# Altium footprint library Cap electrolitic radial 8x12-3.5.PcbLib: 1 footprints
Each footprint in its own frame and in the unit in brackets; x right, y up, seen from the top. Pads: shape width x height; smd on the part's side, far side on the other; paste and mask are expansions set on the pad; w line width, h text height; cw(c..) or ccw(c..) is an arc to the next point about the centre after c.
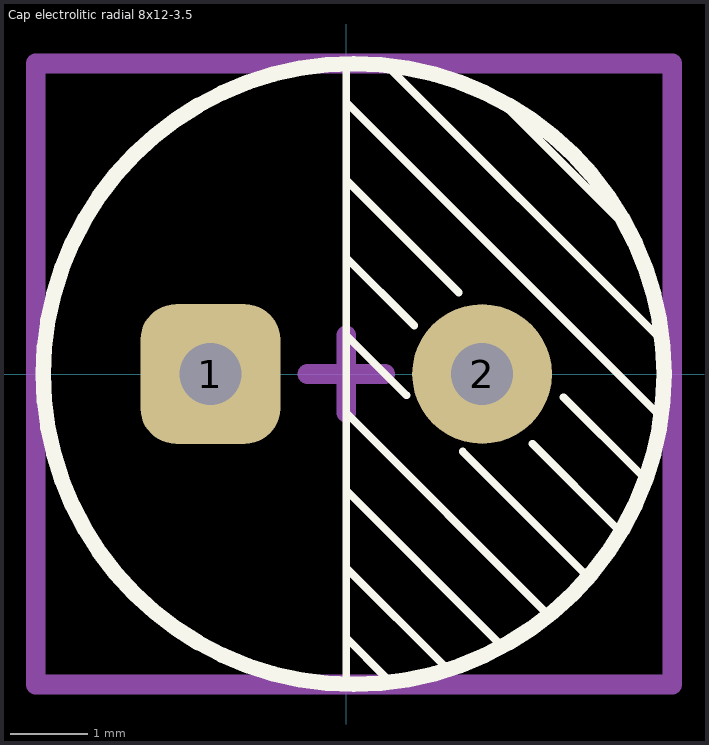
[diagram p0: the footprint, top view; thin cyan lines are the x and y axes]

## Cap electrolitic radial 8x12-3.5 [mm] "Cap electrolitic radial 8x12-3.5-Design:Abbas Basereh"
height 12
pads (2):
  rrect50% 1.8x1.8 hole 0.8: 1(-1.75,0)
  round 1.8 hole 0.8: 2(1.75,0)
Top Overlay:
  circle w0.2: c0.096,0 r4
  lines w0.1: 0,-4 0,4 ; 0,-3.4 0.5,-3.9 ; 0,-2.5 1.3,-3.8 ; 0,-1.5 2,-3.5 ; 0,-0.5 2.6,-3.1 ; 0,0.5 0.775,-0.275 ; 0,1.5 0.875,0.625 ; 0,2.5 1.45,1.05 ; 0,3.5 4,-0.5 ; 0.5,4 4,0.5 ; 1.5,-1 3.1,-2.6 ; 2,3.5 3.6,1.9 ; 2.4,-0.9 3.5,-2 ; 2.8,-0.3 3.8,-1.3
Mechanical 15:
  lines w0.254: -0.5,0 0.5,0 ; 0,-0.5 0,0.5 ; -4,-4 -4,4 4.2,4 4.2,-4 -4,-4
3D body "User Library-Cap-EL(8x12-3_5)T.STEP": height 12.3, standoff -3.3, extent -4,-3.998 4.002,3.998